# Altium footprint library RES_TH_025W.PcbLib: 1 footprints
Each footprint in its own frame and in the unit in brackets; x right, y up, seen from the top. Pads: shape width x height; smd on the part's side, far side on the other; paste and mask are expansions set on the pad; w line width, h text height; cw(c..) or ccw(c..) is an arc to the next point about the centre after c.
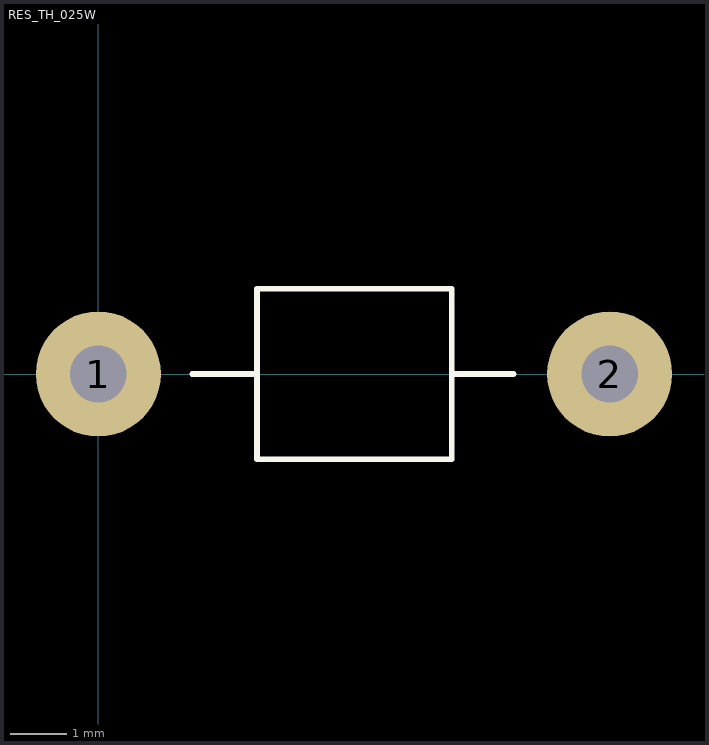
[diagram p0: the footprint, top view; thin cyan lines are the x and y axes]

## RES_TH_025W [mm]
pads (2):
  round 2.2 hole 1: 1(0,0) 2(9,0)
Top Overlay:
  lines w0.1: 1.651,0 2.794,0 ; 6.223,0 7.308,0 ; 2.794,0 2.794,1.5 4.275,1.5 6.223,1.5 6.223,-1.5 2.794,-1.5 2.794,0